# Altium schematic symbol library crystals.SchLib: 1 symbol
Pins are listed as number, name and electrical type; pins without a type are passive.

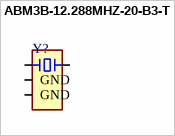
[diagram p0: symbol ABM3B-12.288MHZ-20-B3-T]

## ABM3B-12.288MHZ-20-B3-T
designator Y?  (value not drawn)
Crystal 12.2880MHZ 20PF SMD
footprint XTAL50X32X110
pins: 1 CRYSTAL_1, 2 GND (power), 3 CRYSTAL_2, 4 GND (power)